# EAGLE library part CONN_530470610_PICOBLADE_X_6 (library 3D_MIG_Controller)
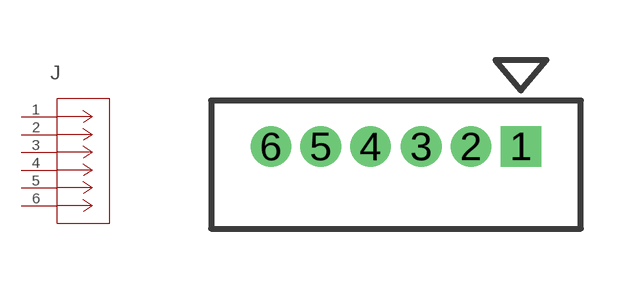
[diagram p90: symbol with the pads of CON_530470610_MOL; footprint CON_530470610_MOL]

Designator prefix J

## CONN_530470610_PICOBLADE_X_6 (COPYRIGHT: Copyright (C) 2023 Ultra Librarian. All rights reserved.; MFR_NAME: Molex Connector Corporation; PARTNO: 530470610)  [CON_530470610_MOL]
1  1  pas
2  2  pas
3  3  pas
4  4  pas
5  5  pas
6  6  pas

## Footprint CON_530470610_MOL (pad centres in mm)
drill 0.508 pad 0.838 square: 1 0,0
drill 0.508 pad 0.838: 2 -1.245,0; 3 -2.489,0; 4 -3.759,0; 5 -5.004,0; 6 -6.248,0